# EAGLE library part WE-RJ45_LAN_10/100_BASET_POE_LED_DIODE (library Wuerth_Elektronik_eiSos_ v6.8)
WE-RJ45 LAN Transformer 10/100 BaseT PoE with LED and Diode - RJ45 connector with integrated transformer common mode choke - 350 µH min.OCL with 350 mA bias - Complies with IEEE 802.3 - Extended temperature range from -40°C to +85°C available -- ADSL Modem -- Embedded PC -- LAN network applications -- Hub, Router, Switches
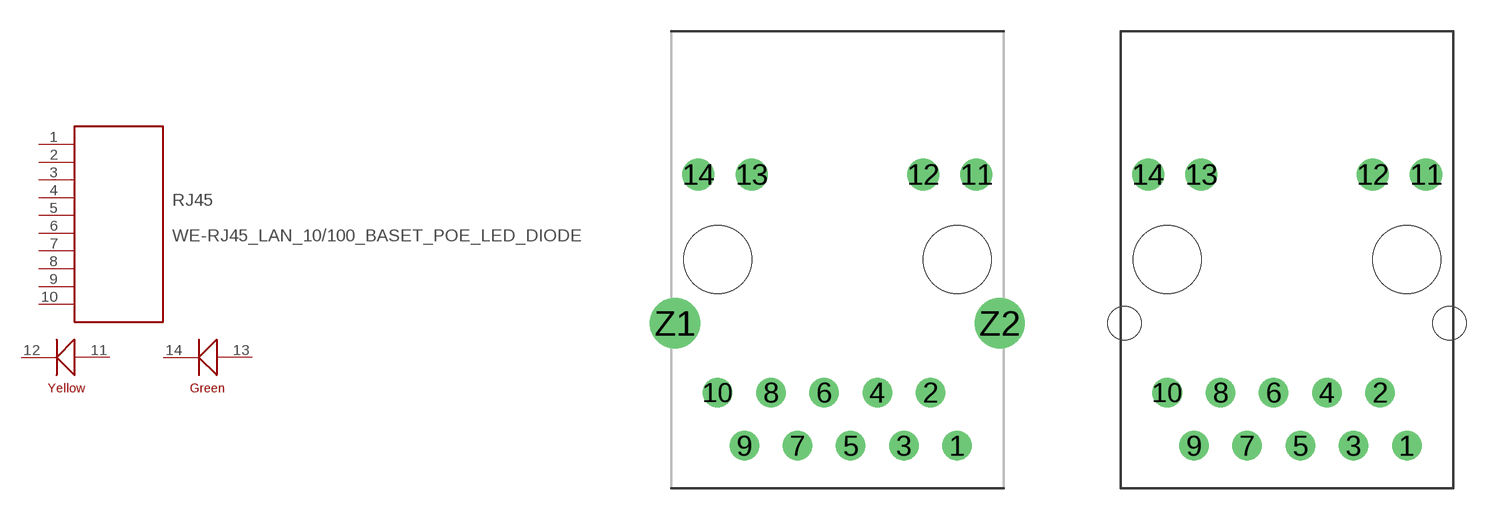
[diagram p95: symbol with the pads of WE-RJ45_LAN_10/100_BASET_7499211121; footprints WE-RJ45_LAN_10/100_BASET_7499211121, WE-RJ45_LAN_10/100_BASET_7499210121]

Designator prefix RJ45

## WE-RJ45_LAN_10/100_BASET_POE_LED_DIODE_7499211121  [WE-RJ45_LAN_10/100_BASET_7499211121]
1  1  pas
2  2  pas
3  3  pas
4  4  pas
5  5  pas
6  6  pas
7  7  pas
8  8  pas
9  9  pas
10  10  pas
11  11  pas
12  12  pas
13  13  pas
14  14  pas

## WE-RJ45_LAN_10/100_BASET_POE_LED_DIODE_7499210121  [WE-RJ45_LAN_10/100_BASET_7499210121]
Pads as for WE-RJ45_LAN_10/100_BASET_7499211121

## Footprint WE-RJ45_LAN_10/100_BASET_7499211121 (pad centres in mm)
WE-RJ45 LAN Transformer 10/100 BaseT with LED
drill 0.9 round: 1 5.715,-8.89; 2 4.445,-6.35; 3 3.175,-8.89; 4 1.905,-6.35; 5 0.635,-8.89; 6 -0.635,-6.35; 7 -1.905,-8.89; 8 -3.175,-6.35; 9 -4.445,-8.89; 10 -5.715,-6.35
drill 1.02 round: 11 6.63,4.06; 12 4.09,4.06; 13 -4.09,4.06; 14 -6.63,4.06
drill 1.6 round: Z1 -7.745,-3.05; Z2 7.745,-3.05
hole 3.25 at 5.715,0
hole 3.25 at -5.715,0

## Footprint WE-RJ45_LAN_10/100_BASET_7499210121 (pad centres in mm)
WE-RJ45 LAN Transformer 10/100 BaseT with LED
drill 0.9 round: 1 5.715,-8.89; 2 4.445,-6.35; 3 3.175,-8.89; 4 1.905,-6.35; 5 0.635,-8.89; 6 -0.635,-6.35; 7 -1.905,-8.89; 8 -3.175,-6.35; 9 -4.445,-8.89; 10 -5.715,-6.35
drill 1.02 round: 11 6.63,4.06; 12 4.09,4.06; 13 -4.09,4.06; 14 -6.63,4.06
hole 3.25 at 5.715,0
hole 3.25 at -5.715,0
hole 1.6 at 7.745,-3.05
hole 1.6 at -7.745,-3.05